# Altium footprint library PcbLib1.PcbLib: 1 footprints
Each footprint in its own frame and in the unit in brackets; x right, y up, seen from the top. Pads: shape width x height; smd on the part's side, far side on the other; paste and mask are expansions set on the pad; w line width, h text height; cw(c..) or ccw(c..) is an arc to the next point about the centre after c.
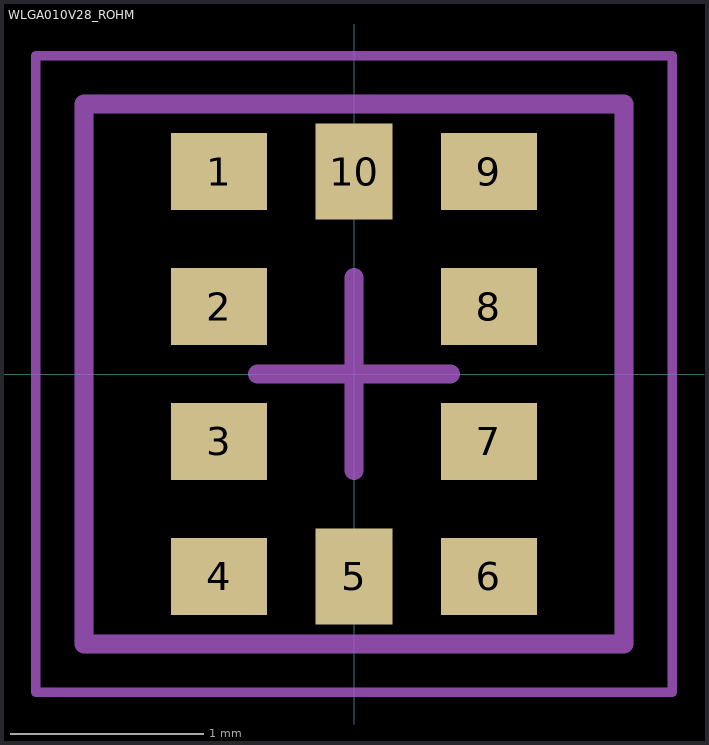
[diagram p0: the footprint, top view; thin cyan lines are the x and y axes]

## WLGA010V28_ROHM [mm] "LGA, 10-Leads, Body 2,80x2,80mmx1,00mm, Pitch 0,70mm"
height 1
pads (10):
  rect 0.5x0.4 smd: 1(-0.7,1.05) 2(-0.7,0.35) 3(-0.7,-0.35) 4(-0.7,-1.05) 6(0.7,-1.05) 7(0.7,-0.35) 8(0.7,0.35) 9(0.7,1.05)
  rect 0.4x0.5 smd: 5(0,-1.05) 10(0,1.05)
Mechanical 13:
  lines w0.1: -1.4,-1.4 1.4,-1.4 1.4,1.4 -1.4,1.4 -1.4,-1.4
Mechanical 15:
  lines w0.05: -1.65,-1.65 1.65,-1.65 1.65,1.65 -1.65,1.65 -1.65,-1.65
  lines w0.1: -0.5,0 0.5,0 ; 0,-0.5 0,0.5
3D body "WLGA010V28_ROHM.step": height 1, standoff 0, extent -1.45,-1.45 1.45,1.45